# Altium schematic symbol library AM_FM_V2_20171101.SCHLIB: 61 symbols
Pins are listed as number, name and electrical type; pins without a type are passive.

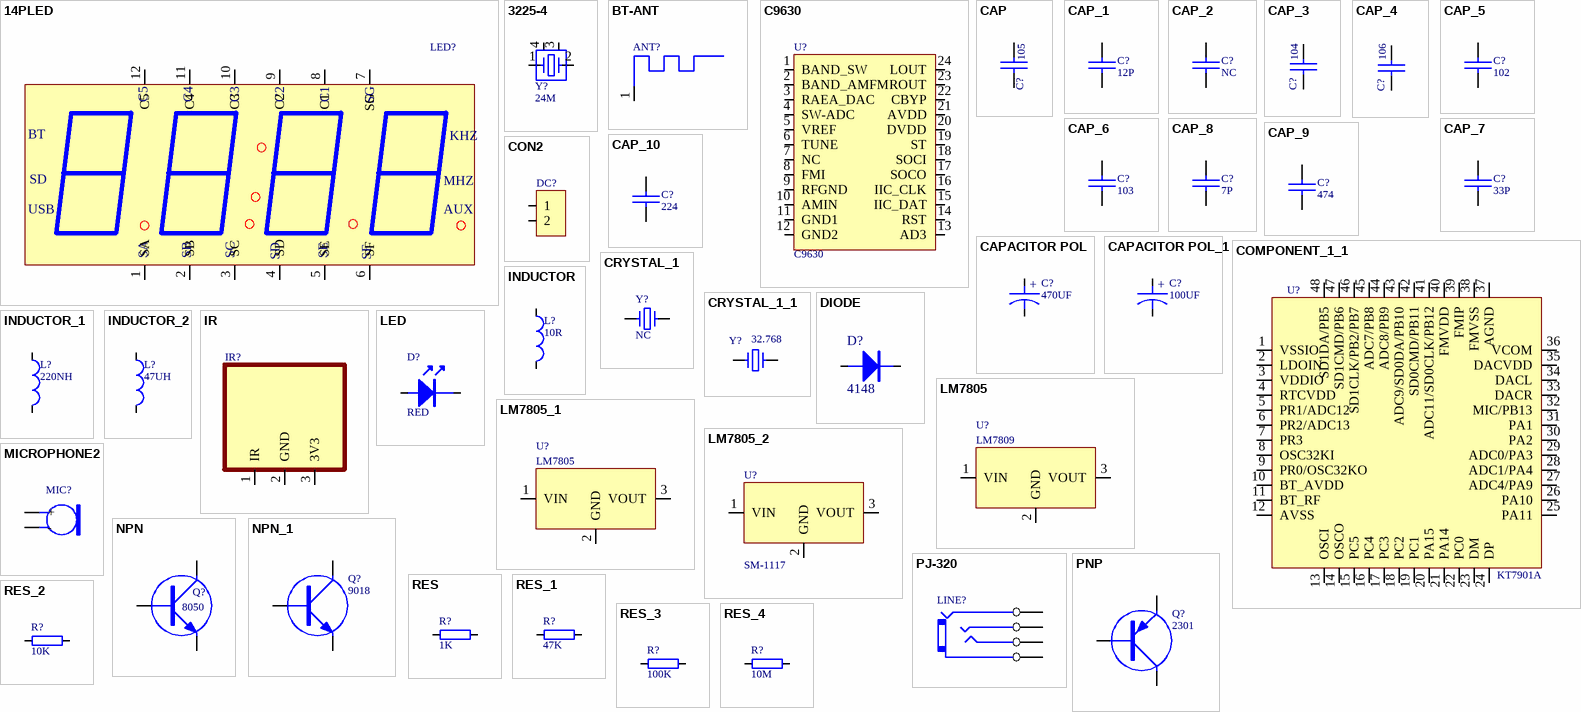
[diagram p0: symbols 14PLED to RES_4]

## 14PLED
designator LED?
footprint 12PINLED
pins: 1 SA, 2 SB, 3 SC, 4 SD, 5 SE, 6 SF, 7 SG, 8 C1, 9 C2, 10 C3, 11 C4, 12 C5
text: BT; KHZ; MHZ; USB; AUX

## 3225-4
designator Y?, comment 24M
footprint 3255_4
pins: 1, 2, 3, 4

## BT-ANT
designator ANT?
footprint BT-ANT-F
footprint BT-ANT-JL
footprint BT-ANT-JR
footprint PADS
pins: 1 bt-ant
2 alternate drawings of the same symbol

## C9630
designator U?
footprint SSOP24
pins: 1 BAND_SW, 2 BAND_AMFM, 3 RAEA_DAC, 4 SW-ADC, 5 VREF, 6 TUNE, 7 NC, 8 FMI, 9 RFGND, 10 AMIN, 11 GND1, 12 GND2, 13 AD3, 14 RST, 15 IIC_DAT, 16 IIC_CLK, 17 SOCO, 18 SOCI, 19 ST, 20 DVDD, 21 AVDD, 22 CBYP, 23 ROUT, 24 LOUT

## CAP
designator C?, comment 105
Capacitor
footprint 0603R
pins: 1, 2

## CAP_1
designator C?, comment 12P
Capacitor
footprint 0603R
pins: 1, 2

## CAP_2
designator C?, comment NC
Capacitor
footprint 0603R
pins: 1, 2

## CAP_3
designator C?, comment 104
Capacitor
footprint 0603R
pins: 1, 2

## CAP_4
designator C?, comment 106
Capacitor
footprint 0603R
pins: 1, 2

## CAP_5
designator C?, comment 102
Capacitor
footprint 0603R
pins: 1, 2

## CAP_6
designator C?, comment 103
Capacitor
footprint 0603R
pins: 1, 2

## CAP_7
designator C?, comment 33P
Capacitor
footprint 0603R
pins: 1, 2

## CAP_8
designator C?, comment 7P
Capacitor
footprint 0603R
pins: 1, 2

## CAP_9
designator C?, comment 474
Capacitor
footprint 0603R
pins: 1, 2

## CAP_10
designator C?, comment 224
Capacitor
footprint 0603R
pins: 1, 2

## CAPACITOR POL
designator C?, comment 470UF
Capacitor
footprint SMT7*7MM
pins: 1, 2
text: +

## CAPACITOR POL_1
designator C?, comment 100UF
Capacitor
footprint SMT7*7MM
pins: 1, 2
text: +

## COMPONENT_1_1
designator U?, comment KT7901A
footprint QFP48-3DAAAAA
pins: 1 VSSIO (power), 2 LDOIN (power), 3 VDDIO, 4 RTCVDD, 5 PR1/ADC12, 6 PR2/ADC13, 7 PR3, 8 OSC32KI, 9 PR0/OSC32KO, 10 BT_AVDD, 11 BT_RF, 12 AVSS, 13 OSCI, 14 OSCO, 15 PC5, 16 PC4, 17 PC3, 18 PC2, 19 PC1, 20 PA15, 21 PA14, 22 PC0, 23 DM, 24 DP, 25 PA11, 26 PA10, 27 ADC4/PA9, 28 ADC1/PA4, 29 ADC0/PA3, 30 PA2, 31 PA1, 32 MIC/PB13, 33 DACR, 34 DACL, 35 DACVDD, 36 VCOM, 37 AGND, 38 FMVSS, 39 FMIP, 40 FMVDD, 41 ADC11/SD0CLK/PB12, 42 SD0CMD/PB11, 43 ADC9/SD0DA/PB10, 44 ADC8/PB9, 45 ADC7/PB8, 46 SD1CLK/PB2/PB7, 47 SD1CMD/PB6, 48 SD1DA/PB5

## CON2
designator DC?
Connector
footprint PIN2-H-2M
pins: 1, 2

## CRYSTAL_1
designator Y?, comment NC
晶振
footprint XT-2X6-DIP
footprint M49S
footprint 2.0*6.0
pins: 1, 2
2 alternate drawings of the same symbol

## CRYSTAL_1_1
designator Y?, comment 32.768
晶振
footprint XT-2X6-DIP
footprint M49S
footprint 2.0*6.0
pins: 1, 2
2 alternate drawings of the same symbol

## DIODE
designator D?, comment 4148
Diode
pins: A, K

## INDUCTOR
designator L?, comment 10R
footprint 0603R
pins: 1, 2

## INDUCTOR_1
designator L?, comment 220NH
footprint 0603R
pins: 1, 2

## INDUCTOR_2
designator L?, comment 47UH
footprint 47UH
pins: 1, 2

## IR
designator IR?
footprint IR
pins: 1 IR, 2 GND, 3 3V3

## LED
designator D?, comment RED
footprint LED0603
pins: A, K

## LM7805
designator U?, comment LM7809
footprint 7805
pins: 1 VIN, 2 GND, 3 VOUT

## LM7805_1
designator U?, comment LM7805
footprint 7805
pins: 1 VIN, 2 GND, 3 VOUT

## LM7805_2
designator U?, comment SM-1117
footprint SOT-89
pins: 1 VIN, 2 GND, 3 VOUT

## MICROPHONE2
designator MIC?
Microphone
footprint MIC
pins: 1 +, 2 -

## NPN
designator Q?, comment 8050
NPN Transistor
footprint 9012
pins: B, C, E

## NPN_1
designator Q?, comment 9018
NPN Transistor
footprint 9012
pins: B, C, E

## PJ-320
designator LINE?
footprint JC-320
footprint JACK-4PIN
pins: 1, 2, 3, 4

## PNP
designator Q?, comment 2301
PNP Transistor
footprint 9012
pins: B, C, E

## RES
designator R?, comment 1K
footprint AXIAL0.3
footprint AXIAL0.4
footprint AXIAL0.5
footprint 0603R
pins: 1, 2

## RES_1
designator R?, comment 47K
footprint AXIAL0.3
footprint AXIAL0.4
footprint AXIAL0.5
footprint 0603R
pins: 1, 2

## RES_2
designator R?, comment 10K
footprint AXIAL0.3
footprint AXIAL0.4
footprint AXIAL0.5
footprint 0603R
pins: 1, 2

## RES_3
designator R?, comment 100K
footprint AXIAL0.3
footprint AXIAL0.4
footprint AXIAL0.5
footprint 0603R
pins: 1, 2

## RES_4
designator R?, comment 10M
footprint AXIAL0.3
footprint AXIAL0.4
footprint AXIAL0.5
footprint 0603R
pins: 1, 2

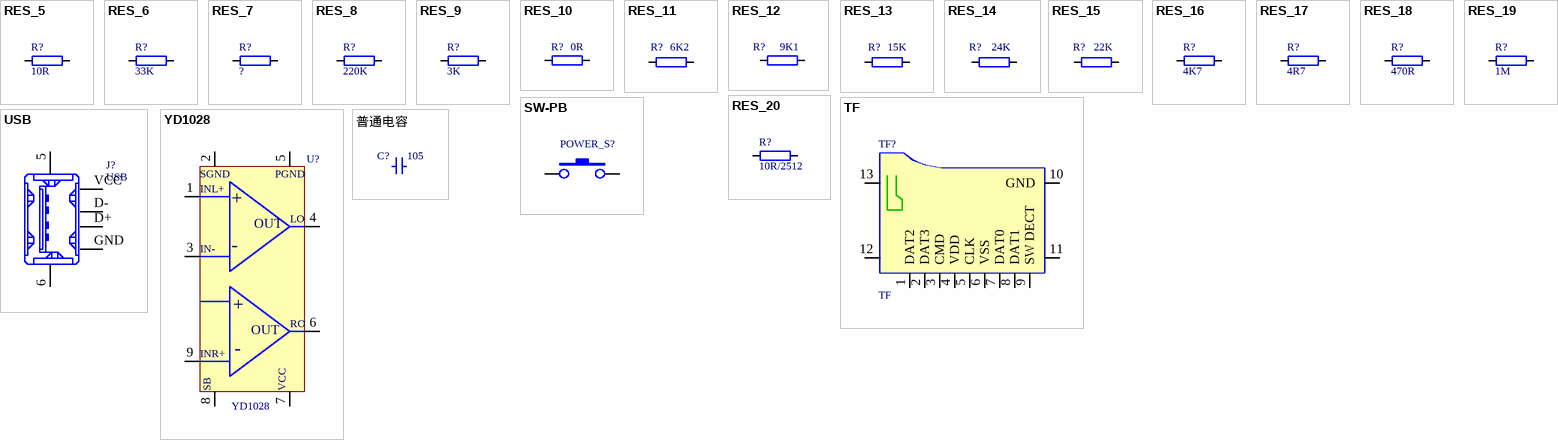
[diagram p1: symbols RES_5 to 普通电容]

## RES_5
designator R?, comment 10R
footprint AXIAL0.3
footprint AXIAL0.4
footprint AXIAL0.5
footprint 0603R
pins: 1, 2

## RES_6
designator R?, comment 33K
footprint AXIAL0.3
footprint AXIAL0.4
footprint AXIAL0.5
footprint 0603R
pins: 1, 2

## RES_7
designator R?, comment ?
footprint AXIAL0.3
footprint AXIAL0.4
footprint AXIAL0.5
footprint 0603R
pins: 1, 2

## RES_8
designator R?, comment 220K
footprint AXIAL0.3
footprint AXIAL0.4
footprint AXIAL0.5
footprint 0603R
pins: 1, 2

## RES_9
designator R?, comment 3K
footprint AXIAL0.3
footprint AXIAL0.4
footprint AXIAL0.5
footprint 0603R
pins: 1, 2

## RES_10
designator R?, comment 0R
footprint AXIAL0.3
footprint AXIAL0.4
footprint AXIAL0.5
footprint 0603R
pins: 1, 2

## RES_11
designator R?, comment 6K2
footprint AXIAL0.3
footprint AXIAL0.4
footprint AXIAL0.5
footprint 0603R
pins: 1, 2

## RES_12
designator R?, comment 9K1
footprint AXIAL0.3
footprint AXIAL0.4
footprint AXIAL0.5
footprint 0603R
pins: 1, 2

## RES_13
designator R?, comment 15K
footprint AXIAL0.3
footprint AXIAL0.4
footprint AXIAL0.5
footprint 0603R
pins: 1, 2

## RES_14
designator R?, comment 24K
footprint AXIAL0.3
footprint AXIAL0.4
footprint AXIAL0.5
footprint 0603R
pins: 1, 2

## RES_15
designator R?, comment 22K
footprint AXIAL0.3
footprint AXIAL0.4
footprint AXIAL0.5
footprint 0603R
pins: 1, 2

## RES_16
designator R?, comment 4K7
footprint AXIAL0.3
footprint AXIAL0.4
footprint AXIAL0.5
footprint 0603R
pins: 1, 2

## RES_17
designator R?, comment 4R7
footprint AXIAL0.3
footprint AXIAL0.4
footprint AXIAL0.5
footprint 0603R
pins: 1, 2

## RES_18
designator R?, comment 470R
footprint AXIAL0.3
footprint AXIAL0.4
footprint AXIAL0.5
footprint 0603R
pins: 1, 2

## RES_19
designator R?, comment 1M
footprint AXIAL0.3
footprint AXIAL0.4
footprint AXIAL0.5
footprint 0603R
pins: 1, 2

## RES_20
designator R?, comment 10R/2512
footprint AXIAL0.3
footprint AXIAL0.4
footprint AXIAL0.5
footprint 0603R
pins: 1, 2

## SW-PB
designator POWER_S?
footprint SW-2
pins: 1, 2

## TF
designator TF?
footprint TF CARD2
footprint TF
pins: 1 DAT2, 2 DAT3, 3 CMD, 4 VDD, 5 CLK, 6 VSS, 7 DAT0, 8 DAT1, 9 SW DECT, 10 GND, 11, 12, 13

## USB
designator J?
footprint USB-4PINSMD
footprint DIPUSB
pins: 5, 6, D+, D-, GND, VCC

## YD1028
designator U?
footprint TO220-Z9
pins: 1 IN+, 2 SGND, 3 IN-, 4 OUT1, 5 PGND, 6 OUT2, 7 VCC, 8 SB, 9 IN+
text: INL+; +; LO; OUT; -; RO; INR+

## 普通电容
designator C?, comment 105
Capacitor
footprint C0805
footprint RAD0.2
footprint RAD0.3
footprint 0603R
pins: 1, 2